# Altium footprint library relay.PCBLIB: 291 footprints (part 4 of 19)
Each footprint in its own frame and in the unit in brackets; x right, y up, seen from the top. Pads: shape width x height; smd on the part's side, far side on the other; paste and mask are expansions set on the pad; w line width, h text height; cw(c..) or ccw(c..) is an arc to the next point about the centre after c.
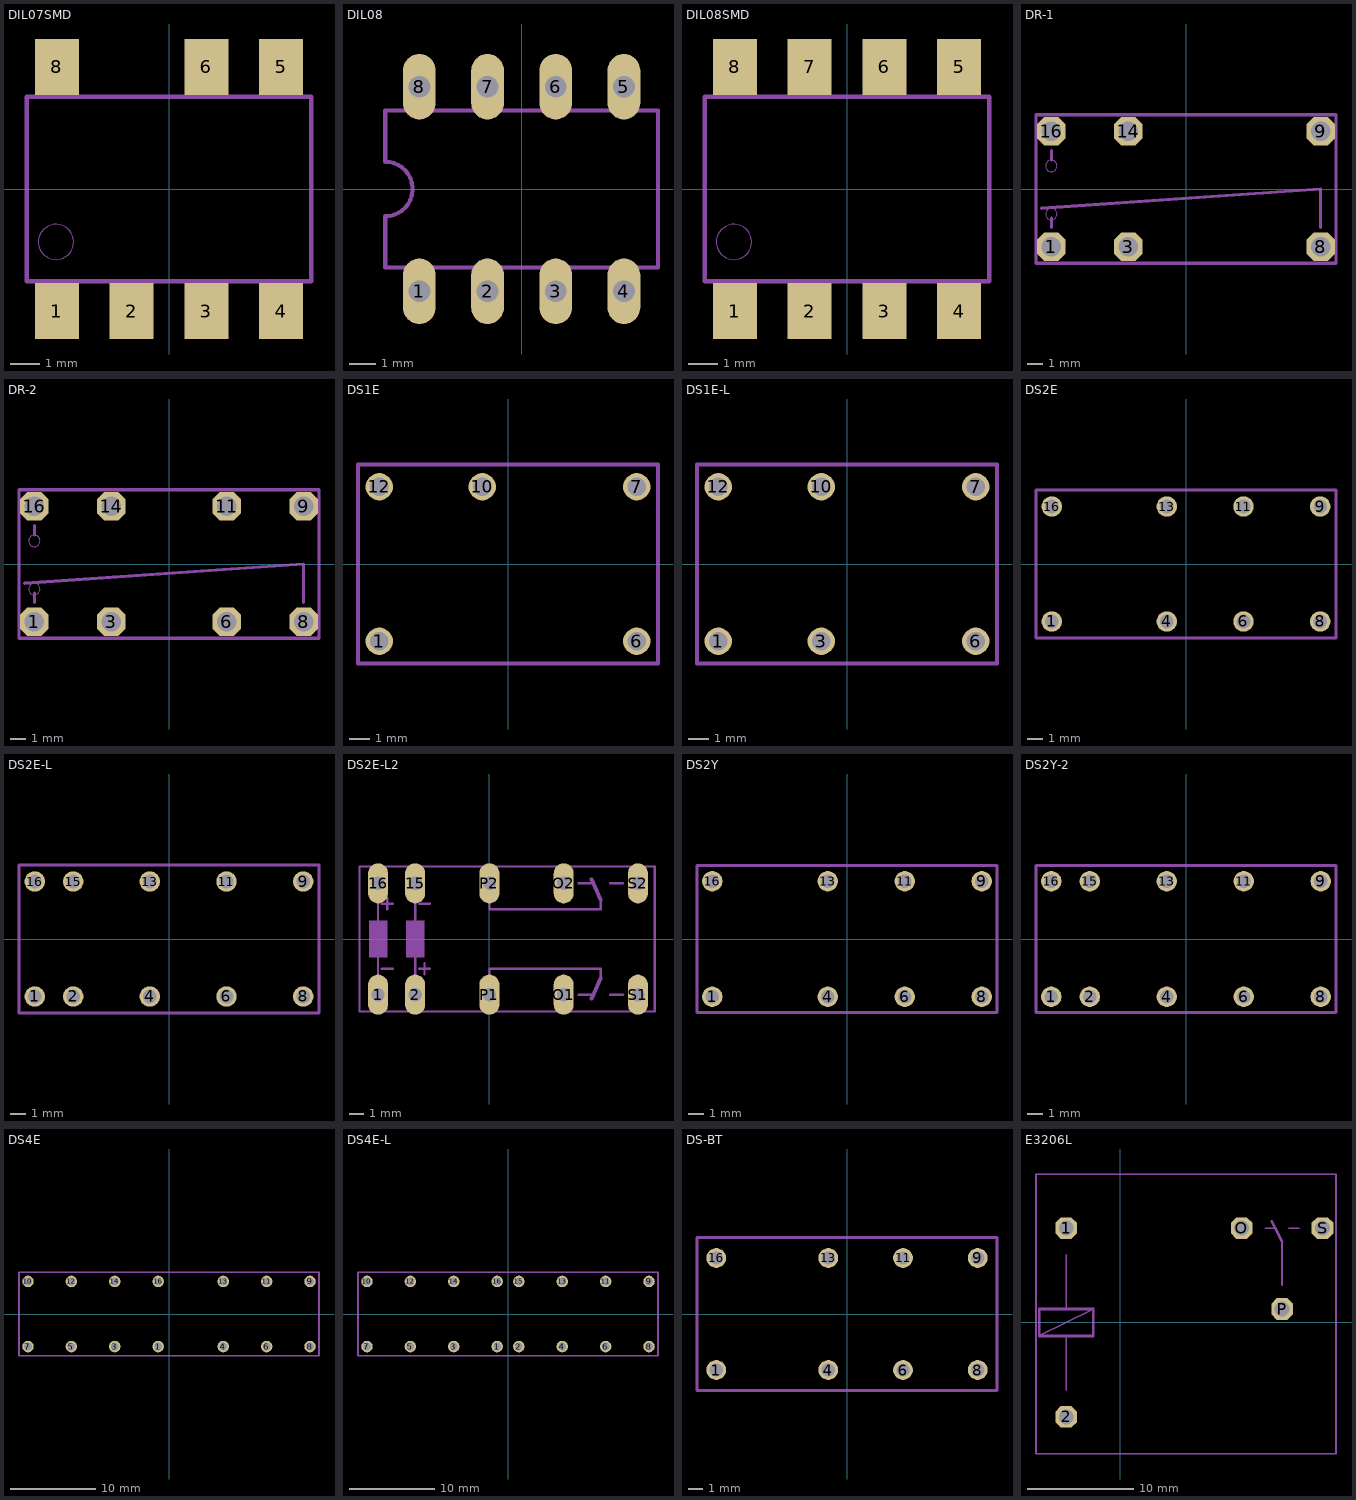
[diagram p3: the footprints below, top view; thin cyan lines are the x and y axes]

## DIL07SMD [mil]
pads (7):
  rect 59.06x74.8 smd: 1(-150,-163.39) 2(-50,-163.39) 3(50,-163.39) 4(150,-163.39) 5(150,163.39) 6(50,163.39) 8(-150,163.39)
Mechanical 2:
  circle w0: c-151.18,-70.87 r23.62
  lines w6: -190.16,-123.78 190.16,-123.78 190.16,123.78 -190.16,123.78 -190.16,-123.78
Mechanical 18:
  rectangle: -170,-180 -130,-125
  rectangle: -70,-180 -30,-125
  rectangle: 30,-180 70,-125
  rectangle: 130,-180 170,-125
  rectangle: 130,125 170,180
  rectangle: 30,125 70,180
  rectangle: -170,125 -130,180

## DIL08 [mil]
pads (8):
  oval 48x96 hole 32: 1(-150,-150) 2(-50,-150) 3(50,-150) 4(150,-150) 5(150,150) 6(50,150) 7(-50,150) 8(-150,150)
Mechanical 2:
  lines w6: -200,-115 200,-115 200,115 -200,115 -200,40 cw(c-200,0) -200,-40 -200,-115

## DIL08SMD [mil]
pads (8):
  rect 59.06x74.8 smd: 1(-150,-163.39) 2(-50,-163.39) 3(50,-163.39) 4(150,-163.39) 5(150,163.39) 6(50,163.39) 7(-50,163.39) 8(-150,163.39)
Mechanical 2:
  circle w0: c-151.18,-70.87 r23.62
  lines w6: -190.16,-123.78 190.16,-123.78 190.16,123.78 -190.16,123.78 -190.16,-123.78
Mechanical 18:
  rectangle: -170,-180 -130,-125
  rectangle: -70,-180 -30,-125
  rectangle: 30,-180 70,-125
  rectangle: 130,-180 170,-125
  rectangle: 130,125 170,180
  rectangle: 30,125 70,180
  rectangle: -70,125 -30,180
  rectangle: -170,125 -130,180

## DR-1 [mil]
pads (6):
  oct 74.33x74.33 hole 51.18: 1(-350,-150) 3(-150,-150) 8(350,-150) 9(350,150) 14(-150,150) 16(-350,150)
Mechanical 2:
  lines w8: -389.76,-192.91 -389.76,192.91 389.76,192.91 389.76,-192.91 -389.76,-192.91
Mechanical 18:
  circle w0: c-350,-65 r15
  circle w0: c-350,60 r15
  lines w8: -375,-50 350,0 350,-100 ; -350,-100 -350,-75 ; -350,75 -350,100

## DR-2 [mil]
pads (8):
  oct 74.33x74.33 hole 51.18: 1(-350,-150) 3(-150,-150) 6(150,-150) 8(350,-150) 9(350,150) 11(150,150) 14(-150,150) 16(-350,150)
Mechanical 2:
  lines w8: -389.76,-192.91 -389.76,192.91 389.76,192.91 389.76,-192.91 -389.76,-192.91
Mechanical 18:
  circle w0: c-350,-65 r15
  circle w0: c-350,60 r15
  lines w8: -375,-50 350,0 350,-100 ; -350,-100 -350,-75 ; -350,75 -350,100

## DS1E [mil]
pads (5):
  round 53.15 hole 35.43: 1(-250,-150) 6(250,-150) 7(250,150) 10(-50,150) 12(-250,150)
Mechanical 2:
  lines w8: -291.34,-192.91 291.34,-192.91 291.34,192.91 -291.34,192.91 -291.34,-192.91

## DS1E-L [mil]
pads (6):
  round 53.15 hole 35.43: 1(-250,-150) 3(-50,-150) 6(250,-150) 7(250,150) 10(-50,150) 12(-250,150)
Mechanical 2:
  lines w8: -291.34,-192.91 291.34,-192.91 291.34,192.91 -291.34,192.91 -291.34,-192.91

## DS2E [mil]
pads (8):
  round 53.15 hole 35.43: 1(-350,-150) 4(-50,-150) 6(150,-150) 8(350,-150) 9(350,150) 11(150,150) 13(-50,150) 16(-350,150)
Mechanical 2:
  lines w8: -391.34,-192.91 391.34,-192.91 391.34,192.91 -391.34,192.91 -391.34,-192.91

## DS2E-L [mil]
pads (10):
  round 53.15 hole 35.43: 1(-350,-150) 2(-250,-150) 4(-50,-150) 6(150,-150) 8(350,-150) 9(350,150) 11(150,150) 13(-50,150) 15(-250,150) 16(-350,150)
Mechanical 2:
  lines w8: -391.34,-192.91 391.34,-192.91 391.34,192.91 -391.34,192.91 -391.34,-192.91

## DS2E-L2 [mil]
pads (10):
  oval 54x108 hole 36: 1(-300,-150) 2(-200,-150) 15(-200,150) 16(-300,150) O1(200,-150) O2(200,150) P1(0,-150) P2(0,150) S1(400,-150) S2(400,150)
Mechanical 2:
  rectangle: -325,-50 -275,50
  rectangle: -225,-50 -175,50
  lines w6: -300,-110 -300,110 ; -290,-80 -260,-80 ; -290,95 -260,95 ; -275,80 -275,110 ; -200,-110 -200,110 ; -190,-80 -160,-80 ; -190,95 -160,95 ; -175,-95 -175,-65 ; 0,-110 0,-80 300,-80 300,-105 ; 0,110 0,80 300,80 300,105 ; 240,-150 275,-150 ; 240,150 275,150 ; 325,-150 360,-150 ; 325,150 360,150 ; -350,-195 445,-195 445,195 -350,195 -350,-195
  lines w10: 275,-160 300,-105 ; 275,160 300,105

## DS2Y [mil]
pads (8):
  round 53.15 hole 35.43: 1(-350,-150) 4(-50,-150) 6(150,-150) 8(350,-150) 9(350,150) 11(150,150) 13(-50,150) 16(-350,150)
Mechanical 2:
  lines w8: -389.76,-190.94 389.76,-190.94 389.76,190.94 -389.76,190.94 -389.76,-190.94

## DS2Y-2 [mil]
pads (10):
  round 53.15 hole 35.43: 1(-350,-150) 2(-250,-150) 4(-50,-150) 6(150,-150) 8(350,-150) 9(350,150) 11(150,150) 13(-50,150) 15(-250,150) 16(-350,150)
Mechanical 2:
  lines w8: -389.76,-190.94 389.76,-190.94 389.76,190.94 -389.76,190.94 -389.76,-190.94

## DS4E [mil]
pads (14):
  round 53.15 hole 35.43: 1(-50,-150) 3(-250,-150) 4(250,-150) 5(-450,-150) 6(450,-150) 7(-650,-150) 8(650,-150) 9(650,150) 10(-650,150) 11(450,150) 12(-450,150) 13(250,150) 14(-250,150) 16(-50,150)
Mechanical 2:
  lines w8: -691.34,-192.91 691.34,-192.91 691.34,192.91 -691.34,192.91 -691.34,-192.91

## DS4E-L [mil]
pads (16):
  round 53.15 hole 35.43: 1(-50,-150) 2(50,-150) 3(-250,-150) 4(250,-150) 5(-450,-150) 6(450,-150) 7(-650,-150) 8(650,-150) 9(650,150) 10(-650,150) 11(450,150) 12(-450,150) 13(250,150) 14(-250,150) 15(50,150) 16(-50,150)
Mechanical 2:
  lines w8: -691.34,-192.91 691.34,-192.91 691.34,192.91 -691.34,192.91 -691.34,-192.91

## DS-BT [mil]
pads (8):
  round 53.15 hole 35.43: 1(-350,-150) 4(-50,-150) 6(150,-150) 8(350,-150) 9(350,150) 11(150,150) 13(-50,150) 16(-350,150)
Mechanical 2:
  lines w8: -401.57,-204.72 401.57,-204.72 401.57,204.72 -401.57,204.72 -401.57,-204.72

## E3206L [mil]
pads (5):
  oct 79.88x79.88 hole 55: 1(-200,350) 2(-200,-350) O(450,350) P(600,50) S(750,350)
Mechanical 2:
  lines w6: -300,-50 -100,50 ; -200,-250 -200,-50 ; -200,50 -200,250 ; 538,350 575,350 ; 600,138 600,300 ; 625,350 663,350 ; 800,290 800,-487 -312,-487 -312,550 800,550 800,410
  lines w10: 562,375 575,350 600,300 ; -300,-50 -300,50 -200,50 -100,50 -100,-50 -200,-50 -300,-50
Mechanical 18:
  lines w6: 800,290 800,410